# EAGLE library part NUCLEO-CN10 (library ELL-i-Boards)
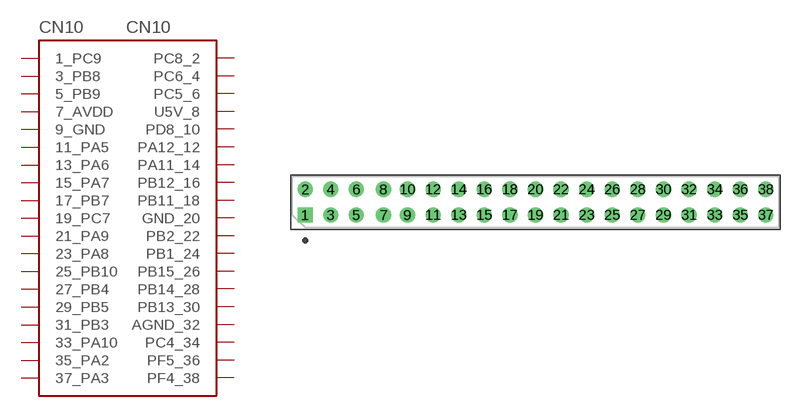
[diagram p6: symbol with the pads of NUCLEO-HEADER; footprint NUCLEO-HEADER]

Designator prefix CN10

## NUCLEO-CN10  [NUCLEO-HEADER]
1  1_PC9
2  PC8_2
3  3_PB8
4  PC6_4
5  5_PB9
6  PC5_6
7  7_AVDD
8  U5V_8
9  9_GND
10  PD8_10
11  11_PA5
12  PA12_12
13  13_PA6
14  PA11_14
15  15_PA7
16  PB12_16
17  17_PB7
18  PB11_18
19  19_PC7
20  GND_20
21  21_PA9
22  PB2_22
23  23_PA8
24  PB1_24
25  25_PB10
26  PB15_26
27  27_PB4
28  PB14_28
29  29_PB5
30  PB13_30
31  31_PB3
32  AGND_32
33  33_PA10
34  PC4_34
35  35_PA2
36  PF5_36
37  37_PA3
38  PF4_38

## Footprint NUCLEO-HEADER (pad centres in mm)
drill 1 square: 1 -22.86,-1.27
drill 1: 2 -22.86,1.27; 3 -20.32,-1.27; 4 -20.32,1.27; 5 -17.78,-1.27; 6 -17.78,1.27; 7 -15.08,-1.27; 8 -15.08,1.27; 9 -12.7,-1.27; 10 -12.7,1.27; 11 -10.16,-1.27; 12 -10.16,1.27; 13 -7.62,-1.27; 14 -7.62,1.27; 15 -5.08,-1.27; 16 -5.08,1.27; 17 -2.54,-1.27; 18 -2.54,1.27; 19 0,-1.27; 20 0,1.27; 21 2.54,-1.27; 22 2.54,1.27; 23 5.08,-1.27; 24 5.08,1.27; 25 7.62,-1.27; 26 7.62,1.27; 27 10.16,-1.27; 28 10.16,1.27; 29 12.7,-1.27; 30 12.7,1.27; 31 15.24,-1.27; 32 15.24,1.27; 33 17.78,-1.27; 34 17.78,1.27; 35 20.32,-1.27; 36 20.32,1.27; 37 22.86,-1.27; 38 22.86,1.27